# Altium schematic symbol library SCH-MCU-WCH-CH552T-TSSOP20.SchLib: 1 symbol
Pins are listed as number, name and electrical type; pins without a type are passive.

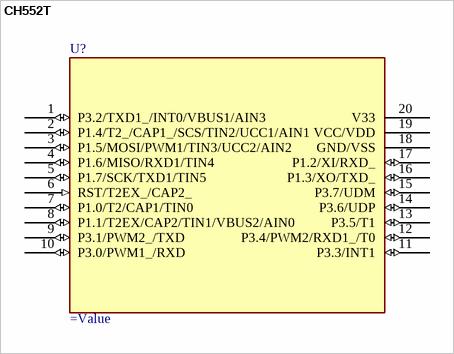
[diagram p0: symbol CH552T]

## CH552T
designator U?
pins: 1 P3.2/TXD1_/INT0/VBUS1/AIN3 (io), 2 P1.4/T2_/CAP1_/SCS/TIN2/UCC1/AIN1 (io), 3 P1.5/MOSI/PWM1/TIN3/UCC2/AIN2 (io), 4 P1.6/MISO/RXD1/TIN4 (io), 5 P1.7/SCK/TXD1/TIN5 (io), 6 RST/T2EX_/CAP2_ (in), 7 P1.0/T2/CAP1/TIN0 (io), 8 P1.1/T2EX/CAP2/TIN1/VBUS2/AIN0 (io), 9 P3.1/PWM2_/TXD (io), 10 P3.0/PWM1_/RXD (io), 11 P3.3/INT1 (io), 12 P3.4/PWM2/RXD1_/T0 (io), 13 P3.5/T1 (io), 14 P3.6/UDP (io), 15 P3.7/UDM (io), 16 P1.3/XO/TXD_ (io), 17 P1.2/XI/RXD_ (io), 18 GND/VSS (power), 19 VCC/VDD (power), 20 V33 (power)